# EAGLE library part STM32F765VG (library Hexabitz)
ARM® Cortex®-M7 STM32F7 Microcontroller IC 32-Bit 216MHz 1MB (1M x 8) FLASH 100-LQFP (14x14)
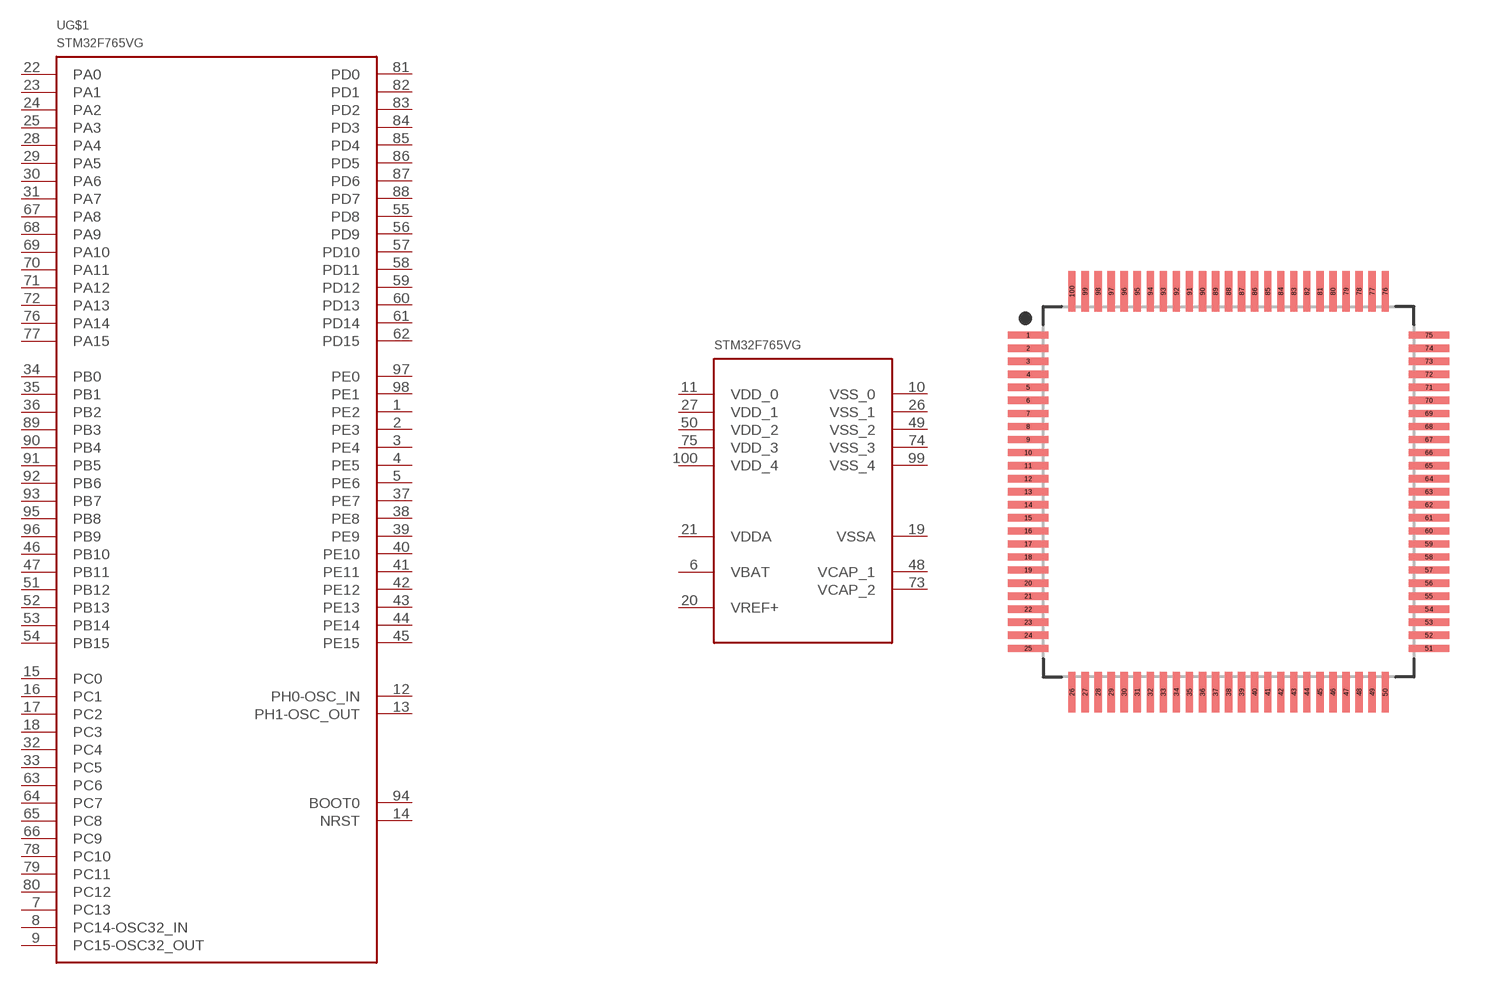
[diagram p10: symbol with the pads of LQFP-100; footprint LQFP-100]

Designator prefix U; gates G$1=STM32F765VG G$2=STM32F765VG_PWR

## STM32F765VGT6 (MFN: STMicroelectronics; MPN: STM32F765VGT6; OCTOPART_URL: https://octopart.com/stm32f765vgt6-stmicroelectronics-74146074?r=sp&s=M5uMT-fwTWSW2KRYY5JPvw)  [LQFP-100]
1  G$1:PE2
2  G$1:PE3
3  G$1:PE4
4  G$1:PE5
5  G$1:PE6
6  G$2:VBAT  pwr
7  G$1:PC13
8  G$1:PC14-OSC32_IN
9  G$1:PC15-OSC32_OUT
10  G$2:VSS_0  pwr
11  G$2:VDD_0  pwr
12  G$1:PH0-OSC_IN
13  G$1:PH1-OSC_OUT
14  G$1:NRST  pas
15  G$1:PC0
16  G$1:PC1
17  G$1:PC2
18  G$1:PC3
19  G$2:VSSA  pwr
20  G$2:VREF+  pwr
21  G$2:VDDA  pwr
22  G$1:PA0
23  G$1:PA1
24  G$1:PA2
25  G$1:PA3
26  G$2:VSS_1  pwr
27  G$2:VDD_1  pwr
28  G$1:PA4
29  G$1:PA5
30  G$1:PA6
31  G$1:PA7
32  G$1:PC4
33  G$1:PC5
34  G$1:PB0
35  G$1:PB1
36  G$1:PB2
37  G$1:PE7
38  G$1:PE8
39  G$1:PE9
40  G$1:PE10
41  G$1:PE11
42  G$1:PE12
43  G$1:PE13
44  G$1:PE14
45  G$1:PE15
46  G$1:PB10
47  G$1:PB11
48  G$2:VCAP_1  pwr
49  G$2:VSS_2  pwr
50  G$2:VDD_2  pwr
51  G$1:PB12
52  G$1:PB13
53  G$1:PB14
54  G$1:PB15
55  G$1:PD8
56  G$1:PD9
57  G$1:PD10
58  G$1:PD11
59  G$1:PD12
60  G$1:PD13
61  G$1:PD14
62  G$1:PD15
63  G$1:PC6
64  G$1:PC7
65  G$1:PC8
66  G$1:PC9
67  G$1:PA8
68  G$1:PA9
69  G$1:PA10
70  G$1:PA11
71  G$1:PA12
72  G$1:PA13
73  G$2:VCAP_2  pwr
74  G$2:VSS_3  pwr
75  G$2:VDD_3  pwr
76  G$1:PA14
77  G$1:PA15
78  G$1:PC10
79  G$1:PC11
80  G$1:PC12
81  G$1:PD0
82  G$1:PD1
83  G$1:PD2
84  G$1:PD3
85  G$1:PD4
86  G$1:PD5
87  G$1:PD6
88  G$1:PD7
89  G$1:PB3
90  G$1:PB4
91  G$1:PB5
92  G$1:PB6
93  G$1:PB7
94  G$1:BOOT0  in
95  G$1:PB8
96  G$1:PB9
97  G$1:PE0
98  G$1:PE1
99  G$2:VSS_4  pwr
100  G$2:VDD_4  pwr

## Footprint LQFP-100 (pad centres in mm)
100-QFP, 0.50 mm pitch, 16.00 mm span, 14.00 X 14.00 X 1.60 mm body 100-pin QFP package with 0.50 mm pitch, 16.00 mm lead span1 X 16.00 mm lead span2 with body size 14.00 X 14.00 X 1.60 mm
smd 1.559 x 0.28: 1 -7.678,6; 2 -7.678,5.5; 3 -7.678,5; 4 -7.678,4.5; 5 -7.678,4; 6 -7.678,3.5; 7 -7.678,3; 8 -7.678,2.5; 9 -7.678,2; 10 -7.678,1.5; 11 -7.678,1; 12 -7.678,0.5; 13 -7.678,0; 14 -7.678,-0.5; 15 -7.678,-1; 16 -7.678,-1.5; 17 -7.678,-2; 18 -7.678,-2.5; 19 -7.678,-3; 20 -7.678,-3.5; 21 -7.678,-4; 22 -7.678,-4.5; 23 -7.678,-5; 24 -7.678,-5.5; 25 -7.678,-6; 51 7.678,-6; 52 7.678,-5.5; 53 7.678,-5; 54 7.678,-4.5; 55 7.678,-4; 56 7.678,-3.5; 57 7.678,-3; 58 7.678,-2.5; 59 7.678,-2; 60 7.678,-1.5; 61 7.678,-1; 62 7.678,-0.5; 63 7.678,0; 64 7.678,0.5; 65 7.678,1; 66 7.678,1.5; 67 7.678,2; 68 7.678,2.5; 69 7.678,3; 70 7.678,3.5; 71 7.678,4; 72 7.678,4.5; 73 7.678,5; 74 7.678,5.5; 75 7.678,6
smd 0.28 x 1.559: 26 -6,-7.678; 27 -5.5,-7.678; 28 -5,-7.678; 29 -4.5,-7.678; 30 -4,-7.678; 31 -3.5,-7.678; 32 -3,-7.678; 33 -2.5,-7.678; 34 -2,-7.678; 35 -1.5,-7.678; 36 -1,-7.678; 37 -0.5,-7.678; 38 0,-7.678; 39 0.5,-7.678; 40 1,-7.678; 41 1.5,-7.678; 42 2,-7.678; 43 2.5,-7.678; 44 3,-7.678; 45 3.5,-7.678; 46 4,-7.678; 47 4.5,-7.678; 48 5,-7.678; 49 5.5,-7.678; 50 6,-7.678; 76 6,7.678; 77 5.5,7.678; 78 5,7.678; 79 4.5,7.678; 80 4,7.678; 81 3.5,7.678; 82 3,7.678; 83 2.5,7.678; 84 2,7.678; 85 1.5,7.678; 86 1,7.678; 87 0.5,7.678; 88 0,7.678; 89 -0.5,7.678; 90 -1,7.678; 91 -1.5,7.678; 92 -2,7.678; 93 -2.5,7.678; 94 -3,7.678; 95 -3.5,7.678; 96 -4,7.678; 97 -4.5,7.678; 98 -5,7.678; 99 -5.5,7.678; 100 -6,7.678